# Altium footprint library Header-2.54mm-1X3-M-V.PcbLib: 1 footprints
Each footprint in its own frame and in the unit in brackets; x right, y up, seen from the top. Pads: shape width x height; smd on the part's side, far side on the other; paste and mask are expansions set on the pad; w line width, h text height; cw(c..) or ccw(c..) is an arc to the next point about the centre after c.
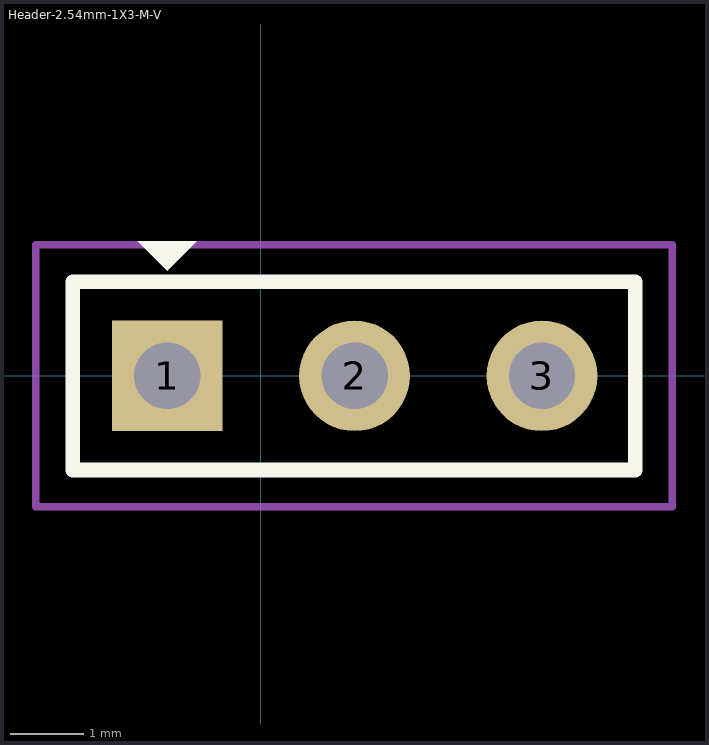
[diagram p0: the footprint, top view; thin cyan lines are the x and y axes]

## Header-2.54mm-1X3-M-V [mm]
pads (3):
  rect 1.5x1.5 hole 0.9: 1(-1.27,0)
  round 1.5 hole 0.9: 2(1.27,0) 3(3.81,0)
Top Overlay:
  region: -1.67,1.825 -0.87,1.825 -1.27,1.425
  lines w0.2: -2.55,-1.275 -2.55,1.275 5.075,1.275 5.075,-1.275 -2.55,-1.275
Top Courtyard:
  lines w0.1: -3.05,-1.775 -2.55,-1.775 5.575,-1.775 5.575,1.775 -3.05,1.775 -3.05,-1.775
3D body "Pin Header Male 01x01 P2.54mm.stp": height 8.34, standoff -3.05, extent -2.54,-1.272 0,1.268
3D body "Pin Header Male 01x01 P2.54mm.stp": height 8.34, standoff -3.05, extent 0,-1.272 2.54,1.268
3D body: height 3, standoff 0, extent -2.007,-0.737 -0.533,0.737
3D body: height 3, standoff 0, extent 0.533,-0.737 2.007,0.737
3D body "Pin Header Male 01x01 P2.54mm.stp": height 8.34, standoff -3.05, extent 2.54,-1.272 5.08,1.268
3D body: height 3, standoff 0, extent 3.073,-0.737 4.547,0.737